# Altium footprint library SKYWORKS XFDFN-6 1X1MM.PCBLIB: 1 footprints
Each footprint in its own frame and in the unit in brackets; x right, y up, seen from the top. Pads: shape width x height; smd on the part's side, far side on the other; paste and mask are expansions set on the pad; w line width, h text height; cw(c..) or ccw(c..) is an arc to the next point about the centre after c.
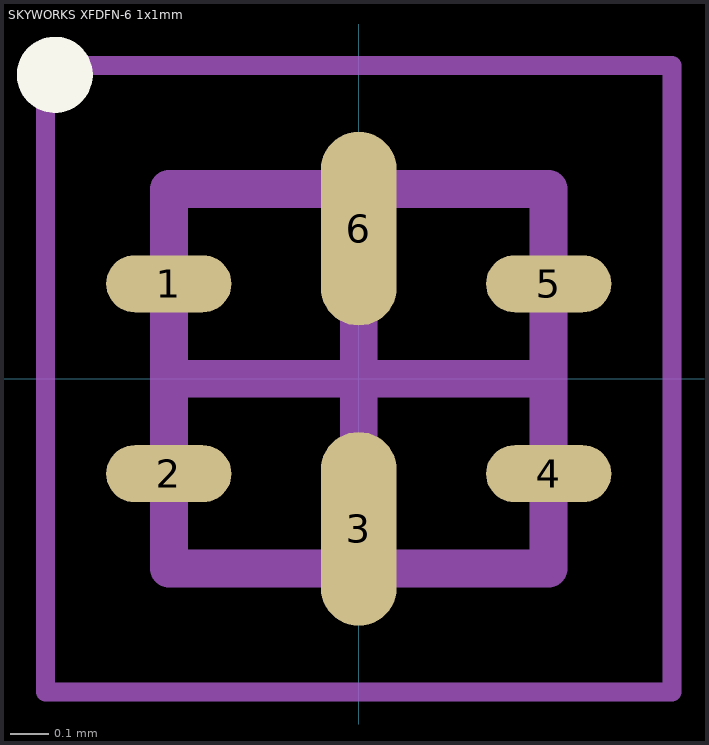
[diagram p0: the footprint, top view; thin cyan lines are the x and y axes]

## SKYWORKS XFDFN-6 1x1mm [mm] "QFN, 6-Leads, Body 1.00x1.00mm, Pitch 0.50mm, IPC High Density"
height 0.5
pads (6):
  oval 0.33x0.15 smd: 1(-0.5,0.25) 2(-0.5,-0.25) 4(0.5,-0.25) 5(0.5,0.25)
  oval 0.2x0.51 smd: 3(0,-0.395) 6(0,0.395)
Top Overlay:
  circle w0.1: c-0.8,0.8 r0.05
Mechanical 13:
  lines w0.1: -0.5,-0.5 0.5,-0.5 0.5,0.5 -0.5,0.5 -0.5,-0.5
Mechanical 15:
  lines w0.05: -0.825,-0.825 0.825,-0.825 0.825,0.825 -0.825,0.825 -0.825,-0.825
  lines w0.1: -0.5,0 0.5,0 ; 0,-0.5 0,0.5
3D body: height 0.5, standoff 0.01, extent -0.5,-0.5 0.5,0.5